# Altium footprint library PcbLib1.PcbLib: 1 footprints
Each footprint in its own frame and in the unit in brackets; x right, y up, seen from the top. Pads: shape width x height; smd on the part's side, far side on the other; paste and mask are expansions set on the pad; w line width, h text height; cw(c..) or ccw(c..) is an arc to the next point about the centre after c.
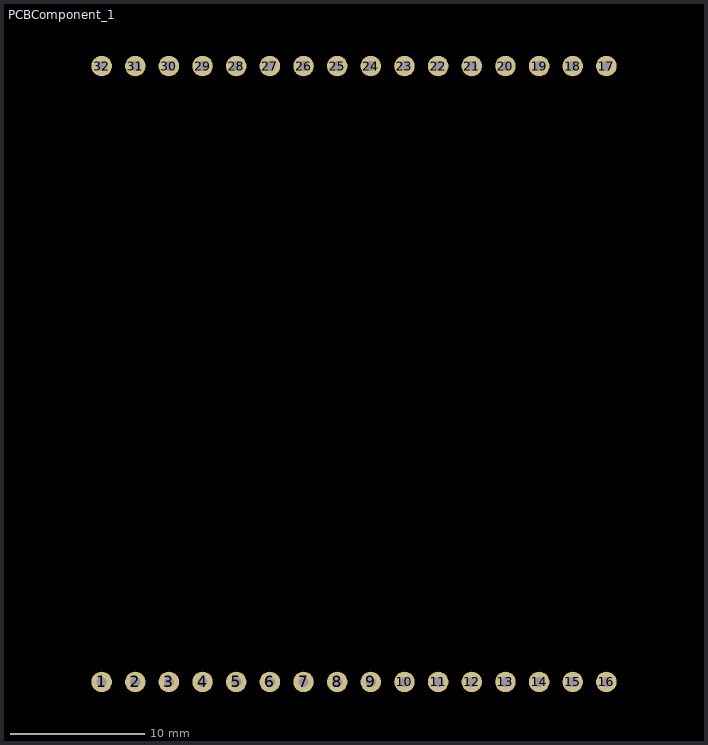
[diagram p0: the footprint, top view; thin cyan lines are the x and y axes]

## PCBComponent_1 [mil]
pads (32):
  round 60 hole 30: 1(433.07,236.22) 2(531.5,236.22) 3(629.92,236.22) 4(728.35,236.22) 5(826.77,236.22) 6(925.2,236.22) 7(1023.62,236.22) 8(1122.05,236.22) 9(1220.47,236.22) 10(1318.9,236.22) 11(1417.32,236.22) 12(1515.75,236.22) 13(1614.17,236.22) 14(1712.6,236.22) 15(1811.02,236.22) 16(1909.45,236.22) 17(1909.45,2037.4) 18(1811.02,2037.4) 19(1712.6,2037.4) 20(1614.17,2037.4) 21(1515.75,2037.4) 22(1417.32,2037.4) 23(1318.9,2037.4) 24(1220.47,2037.4) 25(1122.05,2037.4) 26(1023.62,2037.4) 27(925.2,2037.4) 28(826.77,2037.4) 29(728.35,2037.4) 30(629.92,2037.4) 31(531.5,2037.4) 32(433.07,2037.4)